# EAGLE library part ATXMEGA__A4 (library avr-6)
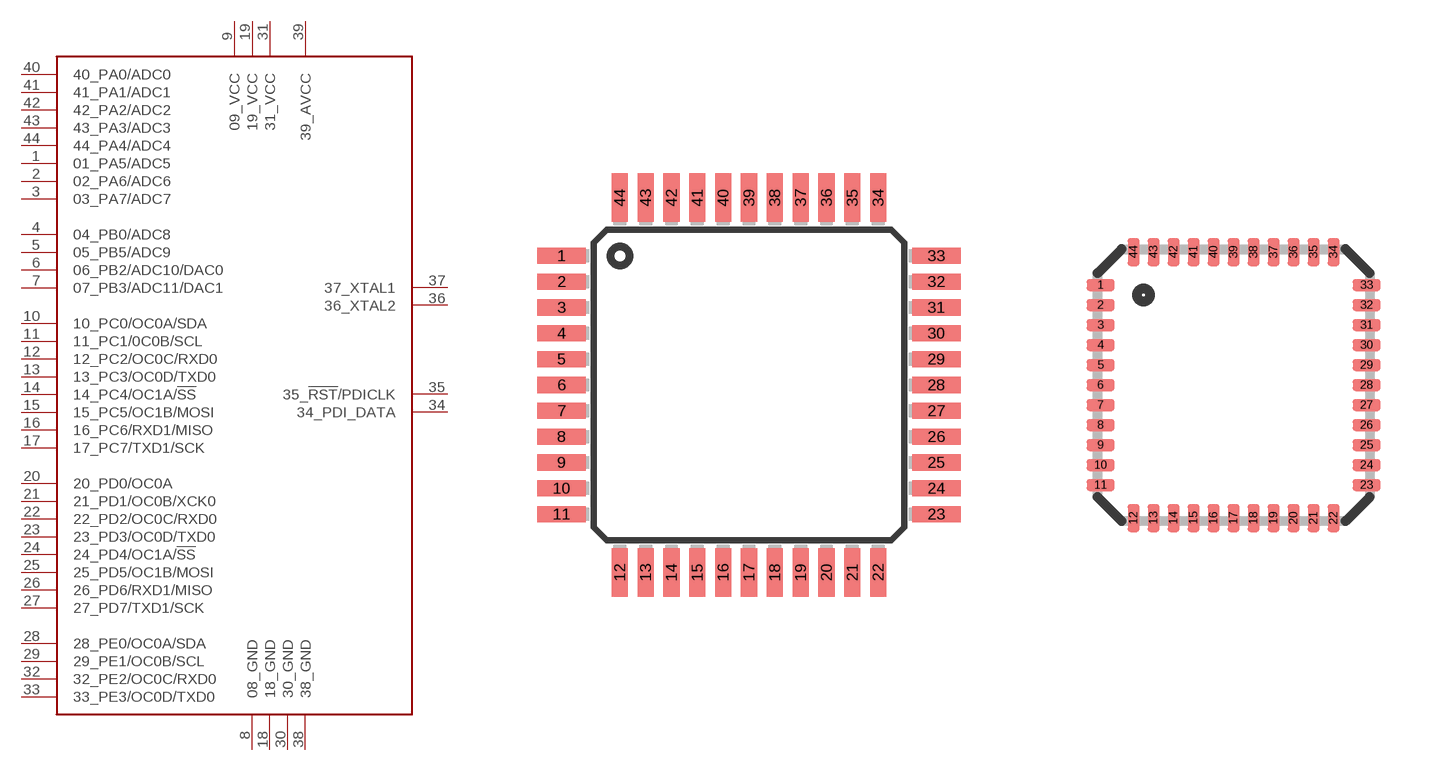
[diagram p61: symbol with the pads of TQFP44; footprints TQFP44, MLF44]

Designator prefix -

## ATXMEGA__A4TQFP  [TQFP44]
1  01_PA5/ADC5
2  02_PA6/ADC6
3  03_PA7/ADC7
4  04_PB0/ADC8
5  05_PB5/ADC9
6  06_PB2/ADC10/DAC0
7  07_PB3/ADC11/DAC1
8  08_GND
9  09_VCC
10  10_PC0/OC0A/SDA
11  11_PC1/0C0B/SCL
12  12_PC2/OC0C/RXD0
13  13_PC3/OC0D/TXD0
14  14_PC4/OC1A/!SS
15  15_PC5/OC1B/MOSI
16  16_PC6/RXD1/MISO
17  17_PC7/TXD1/SCK
18  18_GND
19  19_VCC
20  20_PD0/OC0A
21  21_PD1/OC0B/XCK0
22  22_PD2/OC0C/RXD0
23  23_PD3/OC0D/TXD0
24  24_PD4/OC1A/!SS
25  25_PD5/OC1B/MOSI
26  26_PD6/RXD1/MISO
27  27_PD7/TXD1/SCK
28  28_PE0/OC0A/SDA
29  29_PE1/OC0B/SCL
30  30_GND
31  31_VCC
32  32_PE2/OC0C/RXD0
33  33_PE3/OC0D/TXD0
34  34_PDI_DATA
35  35_!RST!/PDICLK
36  36_XTAL2
37  37_XTAL1
38  38_GND
39  39_AVCC
40  40_PA0/ADC0
41  41_PA1/ADC1
42  42_PA2/ADC2
43  43_PA3/ADC3
44  44_PA4/ADC4

## ATXMEGA__A4MLF  [MLF44]
Pads as for TQFP44

## Footprint TQFP44 (pad centres in mm)
Thin Plasic Quad Flat Package
smd 1.5 x 0.5: 1 -5.8,4; 2 -5.8,3.2; 3 -5.8,2.4; 4 -5.8,1.6; 5 -5.8,0.8; 6 -5.8,0; 7 -5.8,-0.8; 8 -5.8,-1.6; 9 -5.8,-2.4; 10 -5.8,-3.2; 11 -5.8,-4; 23 5.8,-4; 24 5.8,-3.2; 25 5.8,-2.4; 26 5.8,-1.6; 27 5.8,-0.8; 28 5.8,0; 29 5.8,0.8; 30 5.8,1.6; 31 5.8,2.4; 32 5.8,3.2; 33 5.8,4
smd 0.5 x 1.5: 12 -4,-5.8; 13 -3.2,-5.8; 14 -2.4,-5.8; 15 -1.6,-5.8; 16 -0.8,-5.8; 17 0,-5.8; 18 0.8,-5.8; 19 1.6,-5.8; 20 2.4,-5.8; 21 3.2,-5.8; 22 4,-5.8; 34 4,5.8; 35 3.2,5.8; 36 2.4,5.8; 37 1.6,5.8; 38 0.8,5.8; 39 0,5.8; 40 -0.8,5.8; 41 -1.6,5.8; 42 -2.4,5.8; 43 -3.2,5.8; 44 -4,5.8

## Footprint MLF44 (pad centres in mm)
44M1 Micro Lead Frame package (MLF)
smd 0.7 x 0.3: 1 -3.325,2.5; 2 -3.325,2; 3 -3.325,1.5; 4 -3.325,1; 5 -3.325,0.5; 6 -3.325,0; 7 -3.325,-0.5; 8 -3.325,-1; 9 -3.325,-1.5; 10 -3.325,-2; 11 -3.325,-2.5; 23 3.325,-2.5; 24 3.325,-2; 25 3.325,-1.5; 26 3.325,-1; 27 3.325,-0.5; 28 3.325,0; 29 3.325,0.5; 30 3.325,1; 31 3.325,1.5; 32 3.325,2; 33 3.325,2.5
smd 0.3 x 0.7: 12 -2.5,-3.325; 13 -2,-3.325; 14 -1.5,-3.325; 15 -1,-3.325; 16 -0.5,-3.325; 17 0,-3.325; 18 0.5,-3.325; 19 1,-3.325; 20 1.5,-3.325; 21 2,-3.325; 22 2.5,-3.325; 34 2.5,3.325; 35 2,3.325; 36 1.5,3.325; 37 1,3.325; 38 0.5,3.325; 39 0,3.325; 40 -0.5,3.325; 41 -1,3.325; 42 -1.5,3.325; 43 -2,3.325; 44 -2.5,3.325